# Altium footprint library 25Mhz.PcbLib: 2 footprints
Each footprint in its own frame and in the unit in brackets; x right, y up, seen from the top. Pads: shape width x height; smd on the part's side, far side on the other; paste and mask are expansions set on the pad; w line width, h text height; cw(c..) or ccw(c..) is an arc to the next point about the centre after c.
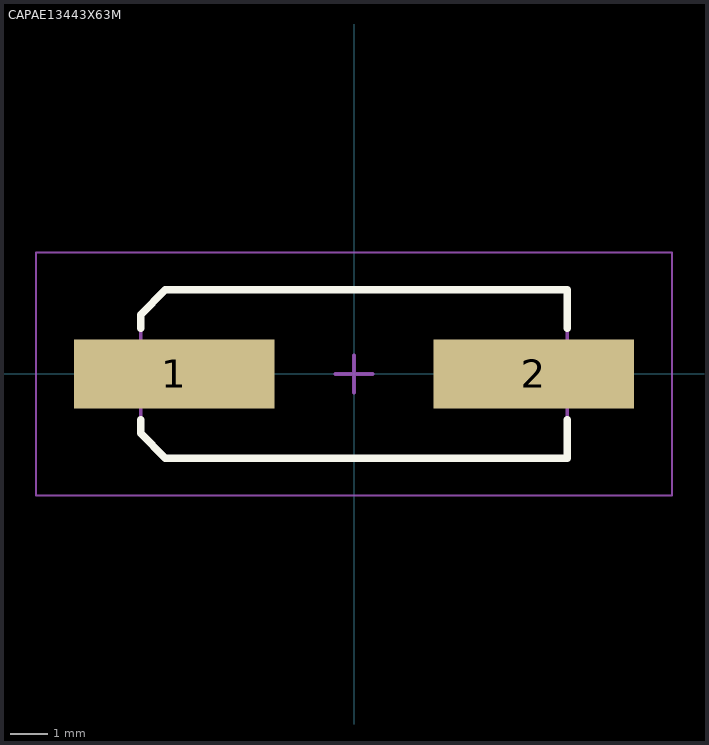
[diagram p0: the footprints below, top view; thin cyan lines are the x and y axes]

## CAPAE13443X63M [mm] "Aluminum Electrolytic Capacitor, Body 11.40x4.30x6.30mm, IPC Low Density"
height 6.3
pads (2):
  rect 5.35x1.85 smd: 1(-4.8,0) 2(4.8,0)
Top Overlay:
  lines w0.2: -5.7,-1.225 -5.7,-1.587 -5.038,-2.25 5.7,-2.25 5.7,-1.225 ; -5.7,1.225 -5.7,1.587 -5.038,2.25 5.7,2.25 5.7,1.225
Mechanical 13:
  lines w0.1: -5.7,-1.587 -5.038,-2.25 5.7,-2.25 5.7,2.25 -5.038,2.25 -5.7,1.587 -5.7,-1.587
Mechanical 15:
  lines w0.05: -8.5,-3.25 -8.5,3.25 8.5,3.25 8.5,-3.25 -8.5,-3.25
  lines w0.1: -0.5,0 0.5,0 ; 0,-0.5 0,0.5
3D body "User Library-HC49_Crystal_SM.STEP": height 4.5, standoff -0.01, extent -6.95,-2.5 6.95,2.5

## PCBComponent_1 - duplicate [mm]